# Altium footprint library Fancy.PcbLib: 140 footprints (part 2 of 9)
Each footprint in its own frame and in the unit in brackets; x right, y up, seen from the top. Pads: shape width x height; smd on the part's side, far side on the other; paste and mask are expansions set on the pad; w line width, h text height; cw(c..) or ccw(c..) is an arc to the next point about the centre after c.
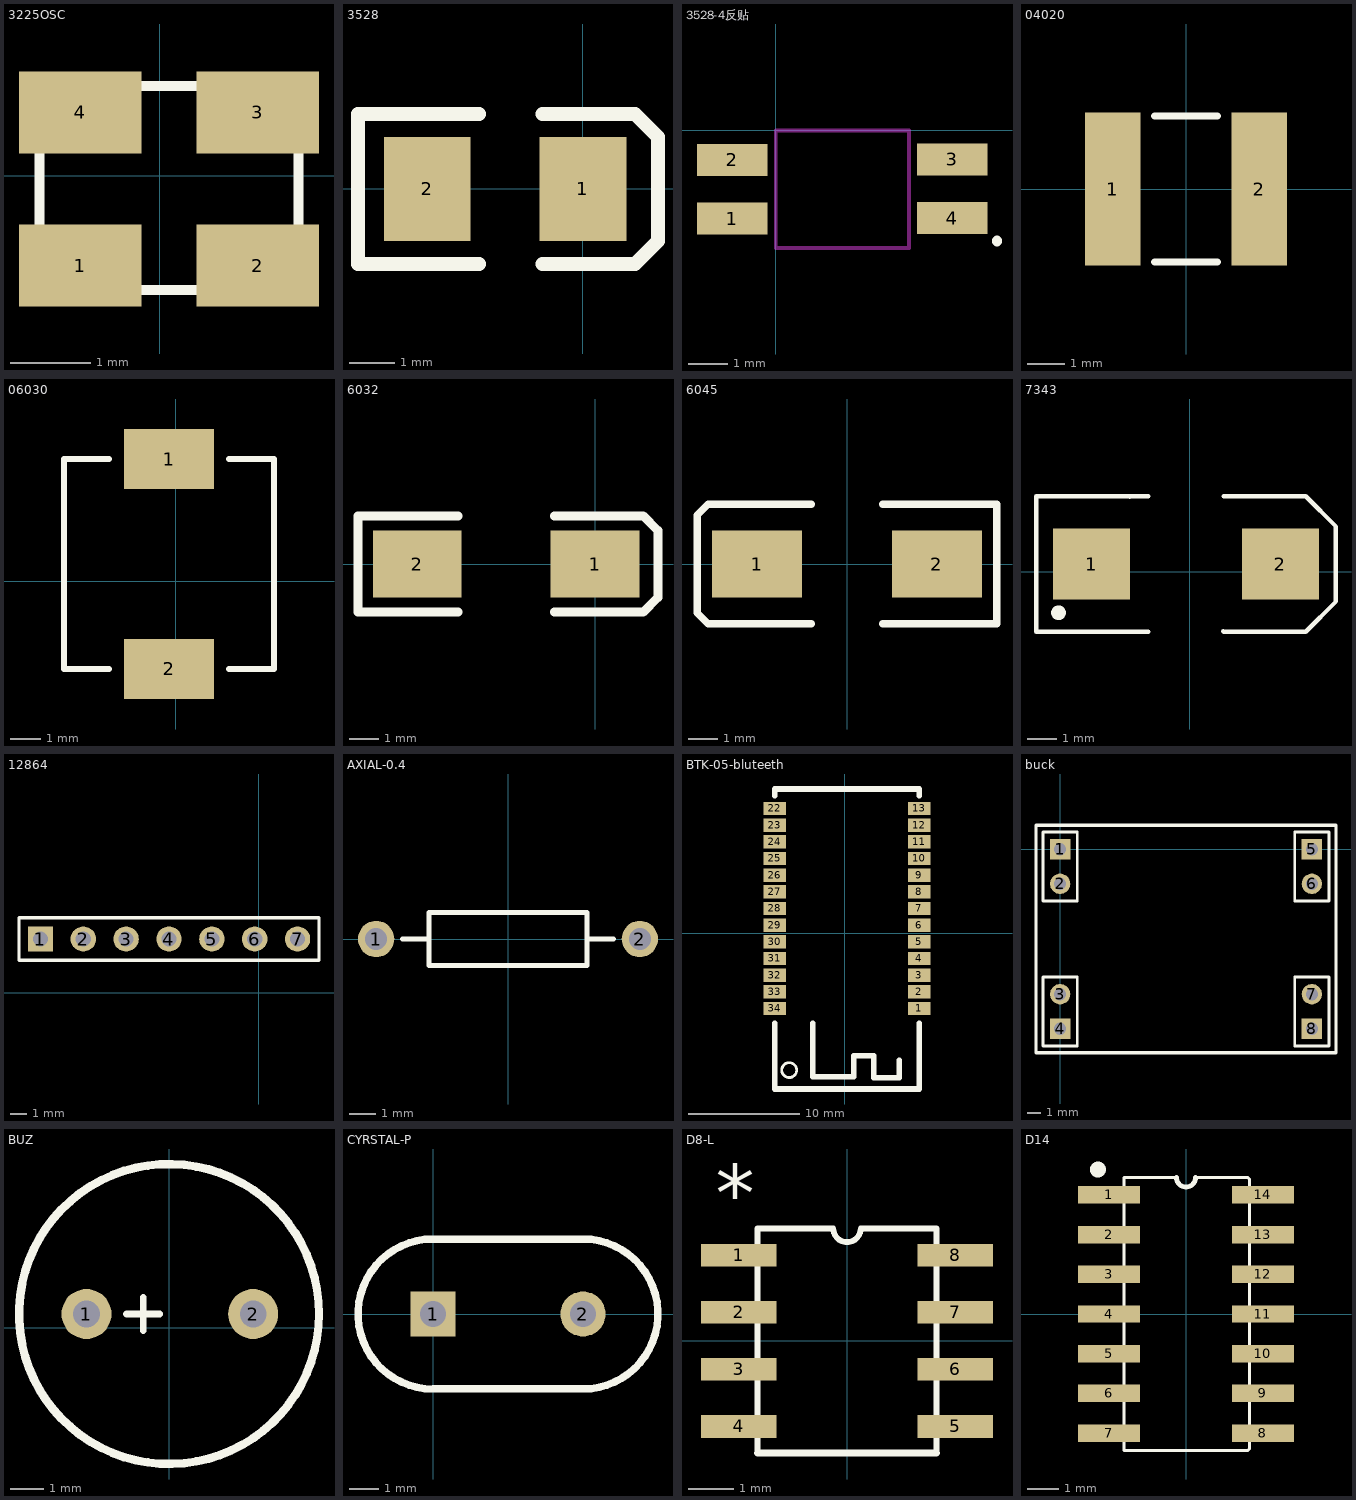
[diagram p1: the footprints below, top view; thin cyan lines are the x and y axes]

## 3225OSC [mil]
pads (4):
  rect 60x40 smd: 1(-39,-44) 2(48,-44) 3(48,31) 4(-39,31)
Top Overlay:
  lines w5: -59,-56 -59,44 68,44 68,-56 -59,-56

## 3528 [mil]
pads (2):
  rect 75x90 smd: 1(0,0) 2(-135,0)
Top Overlay:
  lines w12: -90,-65 -195,-65 -195,65 -90,65 ; -35,-65 45,-65 65,-45 65,45 45,65 -35,65

## 3528-4反贴 [mm]
pads (4):
  rect 1.8x0.82 smd: 1(-1.11,-2.25) 2(-1.11,-0.75) 3(4.51,-0.74) 4(4.51,-2.24)
Top Overlay:
  lines w0.254: 5.65,-2.83 5.65,-2.81
Keep-Out Layer:
  lines w0.1: 0,-3 0,0 3.4,0 3.4,-3 0,-3

## 04020 [mm] "Chip Inductor"
height 0.6
pads (2):
  rect 1.5x4.14 smd: 1(-1.98,0) 2(1.98,0)
Top Overlay:
  lines w0.2: -0.85,-1.97 0.85,-1.97 ; -0.85,1.97 0.85,1.97

## 06030 [mm]
pads (2):
  rect 3x2 smd paste+0 mask+0.102: 1(-0.229,4.079) 2(-0.229,-2.921)
Top Overlay:
  lines w0.2: -2.229,-2.921 -3.729,-2.921 -3.729,4.079 -2.229,4.079 ; 1.771,-2.921 3.272,-2.921 3.272,4.079 1.771,4.079

## 6032 [mil]
pads (2):
  rect 120x90 smd: 1(0,0) 2(-240,0)
Top Overlay:
  lines w12: -185,-65 -320,-65 -320,65 -185,65 ; -55,-65 65,-65 85,-45 85,45 65,65 -55,65

## 6045 [mil]
pads (2):
  rect 120x90 smd: 1(-120,0) 2(120,0)
Top Overlay:
  lines w10: -47.5,-80 -185,-80 -200,-65 -200,65 -185,80 -47.5,80 ; 47.5,-80 200,-80 200,80 47.5,80

## 7343 [mm]
pads (2):
  rect 2.6x2.4 smd: 1(-3.327,0.254) 2(3.073,0.254)
Top Overlay:
  circle w0.25: c-4.443,-1.397 r0.125
  lines w0.152: -2.032,2.54 -2.046,2.554 ; -1.411,-2.046 -2.046,-2.046 -3.927,-2.046 -5.193,-2.046 -5.207,-2.032 -5.207,2.54 -5.193,2.554 -3.927,2.554 -2.046,2.554 ; -1.411,2.554 -2.046,2.554 ; 1.143,-2.032 1.157,-2.046 3.673,-2.046 3.923,-2.046 4.953,-1.016 4.953,1.524 3.923,2.554 3.673,2.554 1.157,2.554

## 12864 [mm]
pads (7):
  rect 1.5x1.5 hole 0.9: 1(-12.954,3.175)
  round 1.5 hole 0.9: 2(-10.414,3.175) 3(-7.874,3.175) 4(-5.334,3.175) 5(-2.794,3.175) 6(-0.254,3.175) 7(2.286,3.175)
Top Overlay:
  lines w0.2: -14.224,1.905 3.556,1.905 3.556,4.445 -14.224,4.445 -14.224,1.905

## AXIAL-0.4 [mm] "Resistor; 2 Leads"
height 2.032
pads (2):
  round 1.4 hole 0.85: 1(-5.08,0) 2(5.08,0)
Top Overlay:
  lines w0.2: -4.064,0 -3.048,0 ; 3.048,0 4.064,0 ; -3.048,-1.016 -3.048,1.016 3.048,1.016 3.048,-1.016 -3.048,-1.016

## BTK-05-bluteeth [mm]
pads (26):
  rect 2x1.2 smd: 1(6.7,-6.75) 2(6.7,-5.25) 3(6.7,-3.75) 4(6.7,-2.25) 5(6.7,-0.75) 6(6.7,0.75) 7(6.7,2.25) 8(6.7,3.75) 9(6.7,5.25) 10(6.7,6.75) 11(6.7,8.25) 12(6.7,9.75) 13(6.7,11.25) 22(-6.3,11.25) 23(-6.3,9.75) 24(-6.3,8.25) 25(-6.3,6.75) 26(-6.3,5.25) 27(-6.3,3.75) 28(-6.3,2.25) 29(-6.3,0.75) 30(-6.3,-0.75) 31(-6.3,-2.25) 32(-6.3,-3.75) 33(-6.3,-5.25) 34(-6.3,-6.75)
Top Overlay:
  circle w0.254: c-5,-12.3 r0.671
  lines w0.5: -6.3,-8.1 -6.3,-14 6.7,-14 6.7,-8.1 ; -6.3,12.4 -6.3,13 6.7,13 6.7,12.4 ; -2.9,-8.1 -2.9,-12.9 0.8,-12.9 0.8,-11 2.6,-11 2.6,-13 4.9,-13 4.9,-11.4

## buck [mm]
pads (8):
  rect 1.5x1.5 hole 0.9: 1(0,0) 4(0,-13.208) 5(18.542,0) 8(18.542,-13.208)
  round 1.5 hole 0.9: 2(0,-2.54) 3(0,-10.668) 6(18.542,-2.54) 7(18.542,-10.668)
Top Overlay:
  lines w0.2: -1.27,-14.478 1.27,-14.478 1.27,-9.398 -1.27,-9.398 -1.27,-14.478 ; -1.27,-3.81 1.27,-3.81 1.27,1.27 -1.27,1.27 -1.27,-3.81 ; 17.272,-14.478 19.812,-14.478 19.812,-9.398 17.272,-9.398 17.272,-14.478 ; 17.272,-3.81 19.812,-3.81 19.812,1.27 17.272,1.27 17.272,-3.81
  lines w0.254: -1.778,-14.986 20.32,-14.986 20.32,1.778 -1.778,1.778 -1.778,-14.986

## BUZ [mil]
pads (2):
  round 59.06 hole 31.5 mask+4: 1(-97.43,16) 2(99.43,16)
Top Overlay:
  circle w10: c0,16 r177.12
  lines w7.87: -50.18,16 -10.81,16 ; -30.5,-3.69 -30.5,35.69

## CYRSTAL-P [mil]
pads (2):
  rect 60x60 hole 35: 1(0,0)
  round 60 hole 35: 2(200,0)
Top Overlay:
  lines w10: -10,100 210,100 ; 0,100 ccw(c0,0) 0,-100 210,-100 ; 200,-100 ccw(c200,0) 200,100

## D8-L [mil]
pads (8):
  rect 66x20 smd: 1(-95,75) 2(-95,25) 3(-95,-25) 4(-95,-75) 5(95,-75) 6(95,-25) 7(95,25) 8(95,75)
Top Overlay:
  lines w5: -78.5,-98.5 -78.5,98.5 -12,98.5 ccw(c0,98.5) 12,98.5 78.5,98.5 78.5,-98.5
  lines w6: -78.5,-98.5 78.5,-98.5
  text "*" at -115,105 h50

## D14 [mil]
pads (14):
  rect 78x22 smd: 1(-97,150) 2(-97,100) 3(-97,50) 4(-97,0) 5(-97,-50) 6(-97,-100) 7(-97,-150) 8(97,-150) 9(97,-100) 10(97,-50) 11(97,0) 12(97,50) 13(97,100) 14(97,150)
Top Overlay:
  circle w10: c-111,182 r5
  lines w3.94: -12,172 -78,172 -78,-172 -50.89,-172 50.89,-172 78,-172 80,-170 80,170 78,172 12,172
  lines w6: -12,172 ccw(c0,172) 12,172